# Altium schematic symbol library XRCHA.SchLib: 3 symbols
Pins are listed as number, name and electrical type; pins without a type are passive.

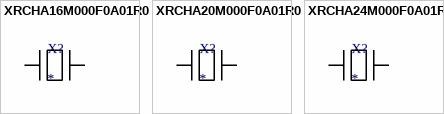
[diagram p0: symbols XRCHA16M000F0A01R0 to XRCHA24M000F0A01R0]

## XRCHA16M000F0A01R0
designator X?
Murata XRCHA Series CRYSTAL 16.0000MHZ 8PF SMD
footprint XRCHA (Murata XRCHA Series Crystal recommended pattern)
pins: 1, 2

## XRCHA20M000F0A01R0
designator X?
Murata XRCHA Series CRYSTAL 20.0000MHZ 8PF SMD
footprint XRCHA (Murata XRCHA Series Crystal recommended pattern)
pins: 1, 2

## XRCHA24M000F0A01R0
designator X?
Murata XRCHA Series CRYSTAL 24.0000MHZ 8PF SMD
footprint XRCHA (Murata XRCHA Series Crystal recommended pattern)
pins: 1, 2